# Altium footprint library IC7411.PcbLib: 1 footprints
Each footprint in its own frame and in the unit in brackets; x right, y up, seen from the top. Pads: shape width x height; smd on the part's side, far side on the other; paste and mask are expansions set on the pad; w line width, h text height; cw(c..) or ccw(c..) is an arc to the next point about the centre after c.
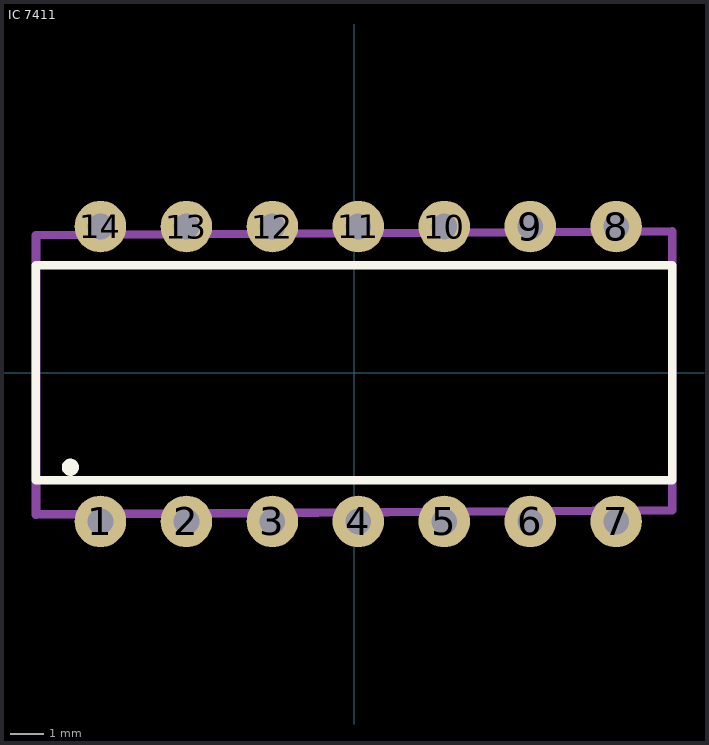
[diagram p0: the footprint, top view; thin cyan lines are the x and y axes]

## IC 7411 [mil] "Three Input AND Gate"
pads (14):
  round 60 hole 30 square: 1(-295.07,-172.88) 2(-195.07,-172.88) 3(-95.07,-172.88) 4(4.93,-172.88) 5(104.93,-172.88) 6(204.93,-172.88) 7(304.93,-172.88) 8(304.93,170.11) 9(204.93,170.11) 10(104.93,170.11) 11(4.93,170.11) 12(-95.07,170.11) 13(-195.07,170.11) 14(-295.07,170.11)
Top Overlay:
  circle w10: c-330.07,-109.89 r5
  lines w10: -370.23,125.11 -370.23,-124.89 369.93,-124.89 ; -370.07,125.11 370.09,125.11 370.09,-124.89
Mechanical 1:
  lines w10: -370.07,-164.89 370.07,-160.11 370.07,164.89 -370.07,160.11 -370.07,-164.89
3D body "DIP-14 N.step": height 141.73, standoff -147.66, extent -344.49,-179.85 344.49,179.85